# Altium schematic symbol library fci-std-hdr.SchLib: 13 symbols
Pins are listed as number, name and electrical type; pins without a type are passive.

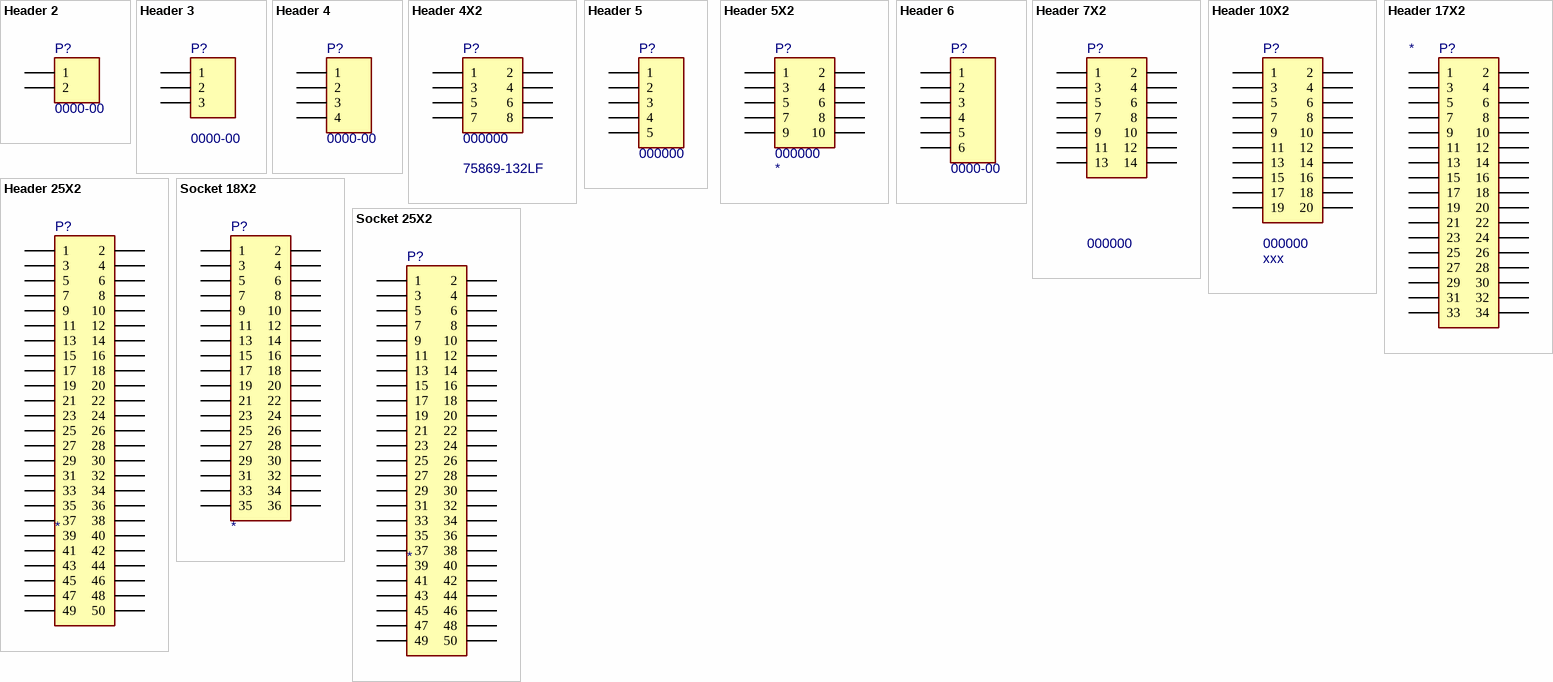
[diagram p0: symbols Header 2 to Socket 25X2]

## Header 2
designator P?, comment 0000-00
Header, 2-Pin; Value: *; PN: 0000-00; ExtraInfo: *
footprint SMH-104-02-L-S (4pos, 2.54mm, SMT Horizontal Socket)
signal-integrity model Connector
footprint TSW-102-07-G-S (.025"  SQ  POST HEADER 2.54mm 2x1)
pins: 1, 2

## Header 3
designator P?, comment 0000-00
Header, 3Pin; Value: *; PN: 0000-00; ExtraInfo: *; Package: *
signal-integrity model Connector
footprint TSM-103-01-X-SV (4pos, 2.54mm, SMT HEADER)
pins: 1, 2, 3

## Header 4
designator P?, comment 0000-00
Header, 4-Pin; Value: *; PN: 0000-00; ExtraInfo: *; Package: *
footprint SMH-104-02-L-S (4pos, 2.54mm, SMT Horizontal Socket)
signal-integrity model Connector
footprint TSM-104-01-L-SH (4pos, 2.54mm, SMT HEADER)
pins: 1, 2, 3, 4

## Header 4X2
designator P?, comment 000000  value 75869-132LF
Socket 4-Pin, Dual row; PN: 000000; Package: SMD; ExtraInfo: *
signal-integrity model Connector
footprint 75869-132LF (SHROUDED  .025"  SQ  POST HEADER 2.54mm 2x4)
footprint 75869-132LF-EDGE (SHROUDED  .025"  SQ  POST HEADER 2.54mm 2x4)
pins: 1, 2, 3, 4, 5, 6, 7, 8

## Header 5
designator P?, comment 000000
Header, 5-Pin; Value: *; PN: 000000; Package: *; ExtraInfo: *
signal-integrity model Connector
footprint TSW-105-07-G-S (.025"  SQ  POST HEADER 2.54mm 5 Positions)
pins: 1, 2, 3, 4, 5

## Header 5X2
designator P?, comment 000000
Socket 5-Pin, Dual row; PN: 000000; Package: SMD; ExtraInfo: *; Value: *
signal-integrity model Connector
footprint 75869-101LF (SHROUDED  .025"  SQ  POST HEADER 2.54mm 2x5)
footprint 75869-101LF-EDGE (SHROUDED  .025"  SQ  POST HEADER 2.54mm 2x5)
pins: 1, 2, 3, 4, 5, 6, 7, 8, 9, 10

## Header 6
designator P?, comment 0000-00
Header, 6-Pin; Package: *; PN: 0000-00; ExtraInfo: *; Value: *
signal-integrity model Connector
pins: 1, 2, 3, 4, 5, 6

## Header 7X2
designator P?, comment 000000
Socket 7-Pin, Dual row; Value: xxx; PN: 000000; ExtraInfo: *
signal-integrity model Connector
pins: 1, 2, 3, 4, 5, 6, 7, 8, 9, 10, 11, 12, 13, 14

## Header 10X2
designator P?, comment 000000  value xxx
Socket 10-Pin, Dual row; PN: 000000; ExtraInfo: *
signal-integrity model Connector
pins: 1, 2, 3, 4, 5, 6, 7, 8, 9, 10, 11, 12, 13, 14, 15, 16, 17, 18, 19, 20

## Header 17X2
designator P?
Socket 17-Pin, Dual row; PN: *; Value: *; ExtraInfo: *; Package: *
signal-integrity model Connector
pins: 1, 2, 3, 4, 5, 6, 7, 8, 9, 10, 11, 12, 13, 14, 15, 16, 17, 18, 19, 20, 21, 22, 23, 24, 25, 26, 27, 28, 29, 30, 31, 32, 33, 34

## Header 25X2
designator P?
Socket 25-Pin, Dual row; PN: *; Value: *; ExtraInfo: *; Package: *
signal-integrity model Connector
pins: 1, 2, 3, 4, 5, 6, 7, 8, 9, 10, 11, 12, 13, 14, 15, 16, 17, 18, 19, 20, 21, 22, 23, 24, 25, 26, 27, 28, 29, 30, 31, 32, 33, 34, 35, 36, 37, 38, 39, 40, 41, 42, 43, 44, 45, 46, 47, 48, 49, 50

## Socket 18X2
designator P?
Socket 18-Pin, Dual row; ExtraInfo: *; PN: *; Value: *; Package: *
signal-integrity model Connector
pins: 1, 2, 3, 4, 5, 6, 7, 8, 9, 10, 11, 12, 13, 14, 15, 16, 17, 18, 19, 20, 21, 22, 23, 24, 25, 26, 27, 28, 29, 30, 31, 32, 33, 34, 35, 36

## Socket 25X2
designator P?
Socket 25-Pin, Dual row; PN: *; Value: *; Package: *; ExtraInfo: *
signal-integrity model Connector
pins: 1, 2, 3, 4, 5, 6, 7, 8, 9, 10, 11, 12, 13, 14, 15, 16, 17, 18, 19, 20, 21, 22, 23, 24, 25, 26, 27, 28, 29, 30, 31, 32, 33, 34, 35, 36, 37, 38, 39, 40, 41, 42, 43, 44, 45, 46, 47, 48, 49, 50